# EAGLE library part HCS410 (library 00_microchip)
ENCODER code hopping encoder and transponder
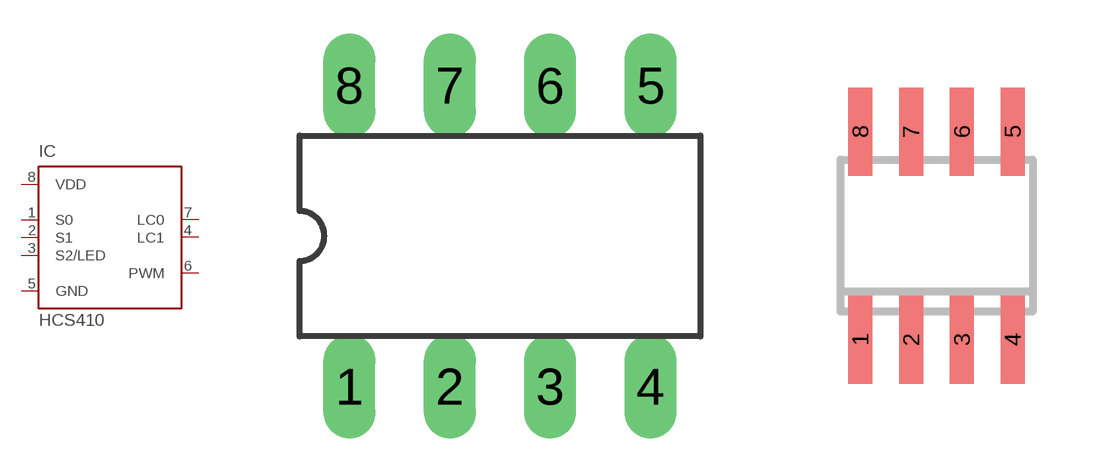
[diagram p44: symbol with the pads of DIL8; footprints DIL8, SO-08]

Designator prefix IC

## HCS410P (MF: MICROCHIP; MPN: HCS410-I/P; OC_FARNELL: unknown; OC_NEWARK: 96K3679)  [DIL8]
1  S0  in
2  S1  in
3  S2/LED
4  LC1
5  GND  pwr
6  PWM
7  LC0
8  VDD  pwr

## HCS410SO (OC_FARNELL: unknown; OC_NEWARK: unknown)  [SO-08]
Pads as for DIL8

## HCS410TS (MF: MICROCHIP; MPN: HCS410-I/ST; OC_FARNELL: unknown; OC_NEWARK: 33C0783)  [TSSOP8]
1  S2/LED
2  LC1
3  GND  pwr
4  PWM
5  LC0
6  VDD  pwr
7  S0  in
8  S1  in

## Footprint DIL8 (pad centres in mm)
Dual In Line package type P
drill 0.813 long: 1 -3.81,-3.81; 2 -1.27,-3.81; 3 1.27,-3.81; 4 3.81,-3.81; 5 3.81,3.81; 6 1.27,3.81; 7 -1.27,3.81; 8 -3.81,3.81

## Footprint SO-08 (pad centres in mm)
Small Outline Narrow Plastic Gull Wing 150-mil body, package type SN
smd 0.6 x 2.2: 1 -1.905,-2.6; 2 -0.635,-2.6; 3 0.635,-2.6; 4 1.905,-2.6; 5 1.905,2.6; 6 0.635,2.6; 7 -0.635,2.6; 8 -1.905,2.6

## Footprint TSSOP8 (pad centres in mm)
Thin Shrink Small Outline Package package type ST
smd 0.35 x 1.2: 1 -0.975,-2.925; 2 -0.325,-2.925; 3 0.325,-2.925; 4 0.975,-2.925; 5 0.975,2.925; 6 0.325,2.925; 7 -0.325,2.925; 8 -0.975,2.925